# Altium footprint library Breakout.PcbLib: 22 footprints (part 1 of 2)
Each footprint in its own frame and in the unit in brackets; x right, y up, seen from the top. Pads: shape width x height; smd on the part's side, far side on the other; paste and mask are expansions set on the pad; w line width, h text height; cw(c..) or ccw(c..) is an arc to the next point about the centre after c.
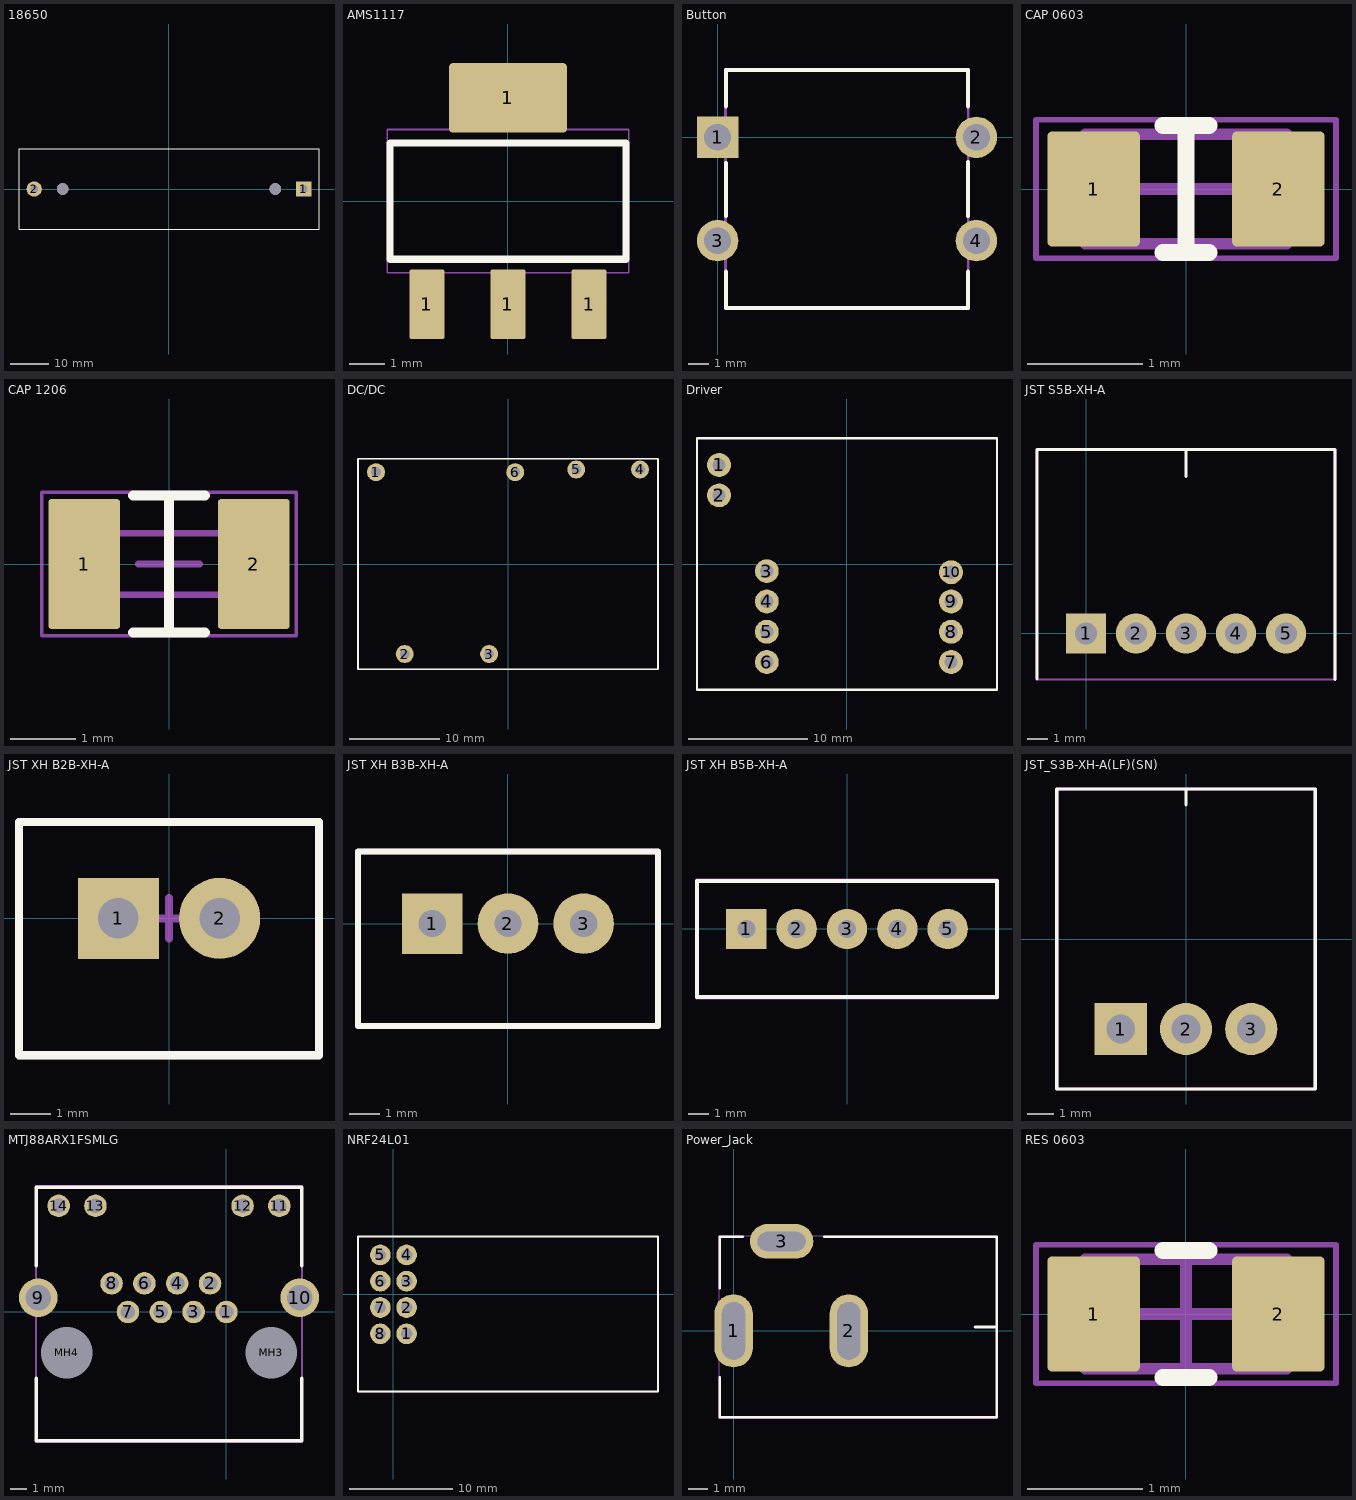
[diagram p0: the footprints below, top view; thin cyan lines are the x and y axes]

## 18650 [mm]
pads (4):
  rect 4x4 hole 2: 1(35,0)
  round 4 hole 2: 2(-35,0)
  round 3 hole 3 unplated: ""(-27.6,0) ""(27.6,0)
Top Overlay:
  lines w0.2: -38.95,-10.4 38.95,-10.4 38.95,10.4 -38.95,10.4 -38.95,-10.4

## AMS1117 [mm]
pads (4):
  rrect10% 0.99x1.97 smd: 1(-2.3,-2.93) 1(0,-2.93) 1(2.3,-2.93)
  rrect10% 3.34x1.97 smd: 1(0,2.93)
Top Overlay:
  lines w0.2: -3.35,-1.651 3.35,-1.651 3.35,1.651 -3.35,1.651 -3.35,-1.651
Mechanical 15:
  lines w0.05: -3.429,-2.032 3.429,-2.032 3.429,2.032 -3.429,2.032 -3.429,-2.032
Mechanical 20:
  lines w0.05: -3.429,-2.032 3.429,-2.032 3.429,2.032 -3.429,2.032 -3.429,-2.032

## Button [mm]
pads (4):
  rect 2x2 hole 1.3: 1(0,0)
  round 2 hole 1.3: 2(12.5,0) 3(0,-5) 4(12.5,-5)
Top Overlay:
  lines w0.2: 0.4,-6.5 0.4,-8.25 12.1,-8.25 12.1,-6.5 ; 0.4,-3.8 0.4,-1.25 ; 0.4,1.5 0.4,3.25 12.1,3.25 12.1,1.5 ; 12.1,-3.8 12.1,-1.2
Mechanical 15:
  lines w0.1: 0.4,-8.25 12.1,-8.25 12.1,3.25 0.4,3.25 0.4,-8.25
Mechanical 20:
  lines w0.05: 0.35,3.3 0.35,-8.3 12.15,-8.3 12.15,3.3
  lines w0.1: 0.35,3.3 12.15,3.3

## CAP 0603 [mm] "Chip Resistor, 2-Leads, Body 1.60x0.80mm"
height 0.45
pads (2):
  rrect10% 0.8x1 smd: 1(-0.8,0) 2(0.8,0)
Top Overlay:
  lines w0.15: -0.2,-0.55 0.2,-0.55 ; -0.2,0.55 0.2,0.55 ; 0,-0.55 0,0.55
Mechanical 13:
  lines w0.1: -0.875,-0.475 -0.875,0.475 0.875,0.475 0.875,-0.475 -0.875,-0.475
Mechanical 15:
  lines w0.05: -1.3,-0.6 -1.3,0.6 1.3,0.6 1.3,-0.6 -1.3,-0.6
  lines w0.1: -0.475,0 0.475,0 ; 0,-0.475 0,0.475
3D body "0603 resistor.STEP": height 0.45, standoff 0, extent -0.8,-0.4 0.8,0.4

## CAP 1206 [mm] "Chip Resistor, 2-Leads, Body 1.60x0.80mm"
height 0.45
pads (2):
  rrect10% 1.1x2 smd: 1(-1.3,0) 2(1.3,0)
Top Overlay:
  lines w0.15: -0.55,-1.05 0.55,-1.05 ; -0.55,1.05 0.55,1.05 ; 0,-1.05 0,1
Mechanical 13:
  lines w0.1: -0.875,-0.475 -0.875,0.475 0.875,0.475 0.875,-0.475 -0.875,-0.475
Mechanical 15:
  lines w0.05: -1.95,-1.1 -1.95,1.1 1.95,1.1 1.95,-1.1 -1.95,-1.1
  lines w0.1: -0.475,0 0.475,0 ; 0,-0.475 0,0.475
Mechanical 20:
  lines w0.05: -1.95,-1.1 1.95,-1.1 1.95,1.1 -1.95,1.1 -1.95,-1.1
3D body "0603 resistor.STEP": height 0.45, standoff 0, extent -0.8,-0.4 0.8,0.4

## DC/DC [mm]
pads (6):
  round 2 hole 1.1: 1(-14.7,10.225) 2(-11.5,-10.025) 3(-2.1,-10.025) 4(14.7,10.525) 5(7.6,10.525) 6(0.8,10.225)
Top Overlay:
  lines w0.2: -16.7,-11.725 16.7,-11.725 16.7,11.725 -16.7,11.725 -16.7,-11.725

## Driver [mm]
pads (10):
  round 2 hole 1.1: 1(-10.725,8.3) 2(-10.725,5.76) 3(-6.725,-0.6) 4(-6.725,-3.14) 5(-6.725,-5.68) 6(-6.725,-8.22) 7(8.725,-8.22) 8(8.725,-5.68) 9(8.725,-3.14) 10(8.725,-0.69)
Top Overlay:
  lines w0.2: -12.575,-10.55 12.575,-10.55 12.575,10.55 -12.575,10.55 -12.575,-10.55
Mechanical 15:
  lines w0.05: -12.575,-10.541 12.573,-10.541 ; -12.575,-10.541 -12.575,10.55 ; -12.575,-10.541 12.573,-10.541 ; -12.575,-10.541 -12.575,10.55 ; -12.575,10.55 12.573,10.55 ; -12.575,10.55 12.573,10.55 ; 12.573,-10.541 12.573,10.55 ; 12.573,-10.541 12.573,10.55
Mechanical 20:
  lines w0.05: -12.575,-10.541 12.573,-10.541 12.573,10.55 -12.575,10.55 -12.575,-10.541

## JST S5B-XH-A [mm]
pads (5):
  rect 2x2 / inner round 2 / far side rect 2x2 hole 1.1: 1(0,0)
  round 2 hole 1.1: 2(2.5,0) 3(5,0) 4(7.5,0) 5(10,0)
Top Overlay:
  lines w0.15: -2.45,-2.286 -2.45,9.2 12.45,9.2 12.45,-2.3 ; 5,7.85 5,9.2
Mechanical 15:
  lines w0.004: -2.45,-2.3 -2.45,9.2
  lines w0.1: -2.45,-2.3 12.45,-2.3
  lines w0.15: -2.45,9.2 12.45,9.2 12.45,-2.3
Mechanical 20:
  lines w0.05: -2.5,-2.3 12.5,-2.3 12.5,9.25 -2.5,9.25 -2.5,-2.3

## JST XH B2B-XH-A [mm]
height 7
pads (2):
  rect 2x2 hole 1: 1(-1.25,0)
  round 2 hole 1: 2(1.25,0)
Top Overlay:
  lines w0.2: -3.7,-3.375 -3.7,2.375 3.7,2.375 3.7,-3.375 -3.7,-3.375
Mechanical 1:
  lines w0.2: -3.7,-3.375 3.7,-3.375 3.7,2.375 -3.7,2.375 -3.7,-3.375
Mechanical 15:
  lines w0.05: -3.683,-3.302 -3.683,2.413 3.683,2.413 3.683,-3.302 -3.683,-3.302
  lines w0.2: -0.5,0 0.5,0 ; 0,-0.5 0,0.5
Mechanical 20:
  lines w0.05: -3.683,-3.429 3.683,-3.429 3.683,2.413 -3.683,2.413 -3.683,-3.429
3D body "JST B2B-XH-A.STEP": height 7, standoff -3.4, extent -3.7,-3.375 3.7,2.375

## JST XH B3B-XH-A [mm]
height 7
pads (3):
  rect 2x2 hole 0.9: 1(-2.5,0)
  round 2 hole 0.9: 2(0,0) 3(2.5,0)
Top Overlay:
  lines w0.2: -4.95,-3.375 -4.95,2.375 4.95,2.375 4.95,-3.375 -4.95,-3.375
Mechanical 1:
  lines w0.2: -4.95,-3.375 4.95,-3.375 4.95,2.375 -4.95,2.375 -4.95,-3.375
Mechanical 15:
  lines w0.05: -4.953,-3.429 -4.953,2.413 4.953,2.413 4.953,-3.429 -4.953,-3.429
  lines w0.2: -0.5,0 0.5,0 ; 0,-0.5 0,0.5
Mechanical 20:
  lines w0.05: -4.953,-3.429 4.953,-3.429 4.953,2.413 -4.953,2.413 -4.953,-3.429
3D body "JST B3B-XH-A.STEP": height 7, standoff -3.4, extent -4.95,-3.375 4.95,2.375

## JST XH B5B-XH-A [mm]
height 7
pads (5):
  rect 2x2 hole 0.9: 1(-5,0)
  round 2 hole 0.9: 2(-2.5,0) 3(0,0) 4(2.5,0) 5(5,0)
Top Overlay:
  lines w0.2: -7.45,-3.375 -7.45,2.375 7.45,2.375 7.45,-3.375 -7.45,-3.375
Mechanical 1:
  lines w0.2: -7.45,-3.375 7.45,-3.375 7.45,2.375 -7.45,2.375 -7.45,-3.375
Mechanical 15:
  lines w0.2: -0.5,0 0.5,0 ; 0,-0.5 0,0.5 ; -7.45,-3.4 -7.45,2.4 7.45,2.4 7.45,-3.4 -7.45,-3.4
3D body "JST B5B-XH-A.STEP": height 7, standoff -3.4, extent -7.45,-3.375 7.45,2.375

## JST_S3B-XH-A(LF)(SN) [mm]
height 6.1
pads (3):
  rect 2x2 hole 1.1: 1(-2.5,-3.45)
  round 2 hole 1.1: 2(0,-3.45) 3(2.5,-3.45)
Top Overlay:
  lines w0.127: 0,5.141 0,5.75 ; -4.95,-5.75 -4.95,5.75 4.95,5.75 4.95,-5.75 -4.95,-5.75
Mechanical 13:
  lines w0.127: -4.95,-5.75 -4.95,5.75 4.95,5.75 4.95,-5.75 -4.95,-5.75
Mechanical 15:
  lines w0.05: -4.953,-5.715 -4.953,5.715 4.953,5.715 4.953,-5.715 -4.953,-5.715

## MTJ88ARX1FSMLG [mm]
pads (16):
  round 1.4 hole 0.9: 1(0,0) 2(-1.02,1.78) 3(-2.04,0) 4(-3.06,1.78) 5(-4.08,0) 6(-5.1,1.78) 7(-6.12,0) 8(-7.14,1.78) 11(3.29,6.6) 12(1,6.6) 13(-8.14,6.6) 14(-10.43,6.6)
  round 2.4 hole 1.6: 9(-11.695,0.89) 10(4.555,0.89)
  round 1.6 hole 3.2 unplated: MH3(2.78,-2.54) MH4(-9.92,-2.54)
Top Overlay:
  lines w0.2: -11.82,-4.125 -11.82,-8 4.68,-8 4.68,-4.125 ; -11.82,2.875 -11.82,7.75 4.68,7.75 4.68,2.875
Top Courtyard:
  lines w0.1: -11.85,-8.1 4.7,-8.1 4.7,7.85 -11.85,7.85 -11.85,-8.1
Mechanical 15:
  lines w0.1: -11.82,-8 4.68,-8 4.68,7.75 -11.82,7.75 -11.82,-8
Mechanical 20:
  lines w0.1: -11.85,-8.05 4.7,-8.05 4.7,7.85 -11.85,7.85 -11.85,-8.05

## NRF24L01 [mm]
pads (8):
  round 2 hole 1.1: 1(1.27,-3.81) 2(1.27,-1.27) 3(1.27,1.27) 4(1.27,3.81) 5(-1.27,3.81) 6(-1.27,1.27) 7(-1.27,-1.27) 8(-1.27,-3.81)
Top Overlay:
  lines w0.2: -3.429,-9.398 25.571,-9.398 25.571,5.602 -3.429,5.602 -3.429,-9.398
Mechanical 15:
  lines w0.05: -3.429,-9.398 25.527,-9.398 25.527,5.602 -3.429,5.602 -3.429,-9.398
Mechanical 20:
  lines w0.05: -3.429,-9.398 25.527,-9.398 25.527,5.602 -3.429,5.602 -3.429,-9.398

## Power_Jack [mm]
pads (3):
  oval 2x3.8 hole 1.2 slot 3 at 90 deg: 1(0,0) 2(6,0)
  oval 3.3x1.8 hole 1 slot 2.5 at 0 deg: 3(2.5,4.65)
Top Overlay:
  lines w0.127: -0.723,-2.413 -0.723,-4.5 13.677,-4.5 13.677,4.9 4.727,4.9 ; -0.723,2.21 -0.723,4.9 0.483,4.9
  lines w0.15: 12.55,0.2 13.677,0.2
  lines w0.254: 5.969,0 5.977,0
Mechanical 20:
  lines w0.05: -0.75,-4.55 -0.75,4.95 13.7,4.95 13.7,-4.55 -0.75,-4.55
3D body "Power_JackPJ-102A.step": height 11.49, standoff -3.02, extent -0.762,-4.446 13.638,4.954

## RES 0603 [mm] "Chip Resistor, 2-Leads, Body 1.60x0.80mm"
height 0.45
pads (2):
  rrect10% 0.8x1 smd: 1(-0.8,0) 2(0.8,0)
Top Overlay:
  lines w0.15: -0.2,-0.55 0.2,-0.55 ; -0.2,0.55 0.2,0.55
Top Courtyard:
  lines w0.05: -1.3,-0.6 -1.3,0.6 1.3,0.6 1.3,-0.6 -1.3,-0.6
Mechanical 13:
  lines w0.1: -0.875,-0.475 -0.875,0.475 0.875,0.475 0.875,-0.475 -0.875,-0.475
Mechanical 15:
  lines w0.1: -0.475,0 0.475,0 ; 0,-0.475 0,0.475
Mechanical 20:
  lines w0.05: -1.3,-0.6 -1.3,0.6 1.3,0.6 1.3,-0.6 -1.3,-0.6
3D body "0603 resistor.STEP": height 0.45, standoff 0, extent -0.8,-0.4 0.8,0.4